# EAGLE library part PINHEAD-1X10 (library GClue)
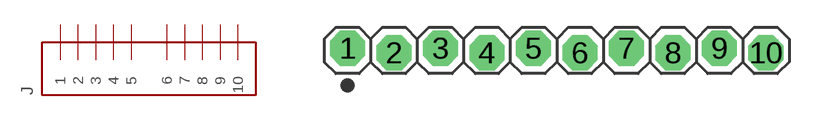
[diagram p18: symbol with the pads of 1X10-SNEAKY; footprint 1X10-SNEAKY]

Designator prefix J

## PINHEAD-1X10  [1X10-SNEAKY]
1  1
2  2
3  3
4  4
5  5
6  6
7  7
8  8
9  9
10  10

## Footprint 1X10-SNEAKY (pad centres in mm)
drill 1.016 pad 1.93 octagon: 1 -11.43,0.127; 2 -8.89,-0.127; 3 -6.35,0.127; 4 -3.81,-0.127; 5 -1.27,0.127; 6 1.27,-0.127; 7 3.81,0.127; 8 6.35,-0.127; 9 8.89,0.127; 10 11.43,-0.127